# Altium schematic symbol library moma_altium_library.SchLib: 29 symbols
Pins are listed as number, name and electrical type; pins without a type are passive.

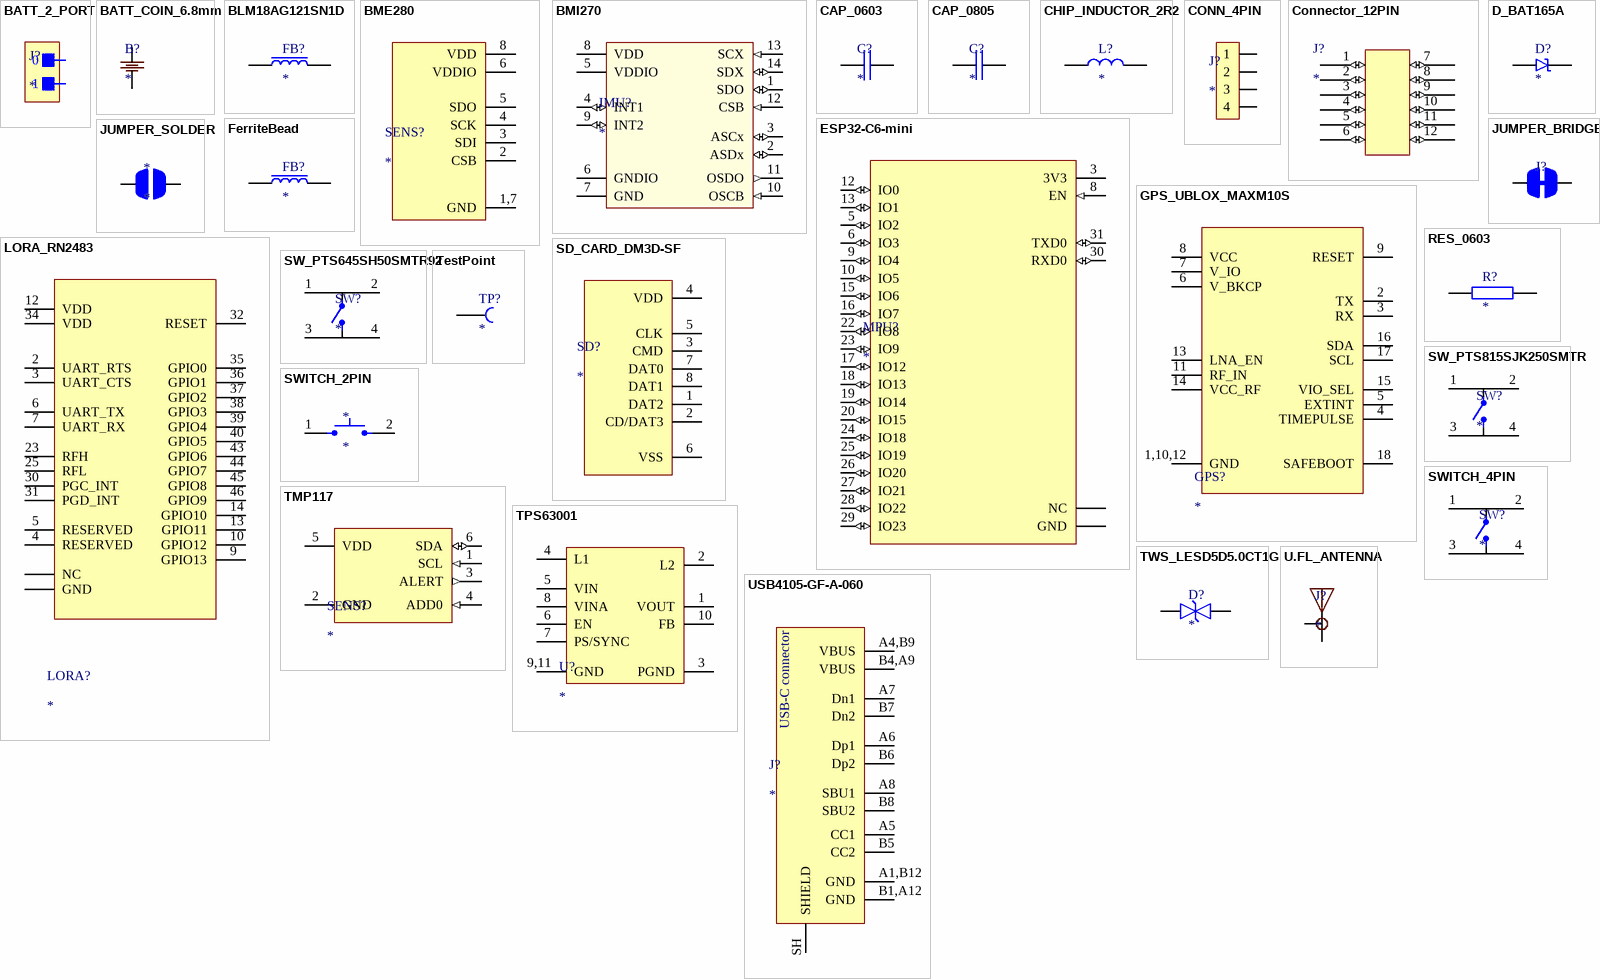
[diagram p0: symbols BATT_2_PORT to USB4105-GF-A-060]

## BATT_2_PORT
designator J?
pins: 0, 1

## BATT_COIN_6.8mm
designator B?
footprint BAT_BK-879
pins: 1, 2

## BLM18AG121SN1D
designator FB?
Murata BLM18AG121SN1D
footprint FB_0603 (Chip Inductor, 2-Leads, Body 1.60x0.80mm, IPC Medium Density)
pins: 1, 2

## BME280
designator SENS?
footprint LGA25x25x1MM (LGA, 9-Leads, Body 2.50x2.50mmx1.00mm, Pitch 0.65mm)
pins: 1,7 GND, 2 CSB, 3 SDI, 4 SCK, 5 SDO, 6 VDDIO, 8 VDD

## BMI270
designator IMU?
footprint LGA14_3x2.5x0.8mm (LGA, 14-Leads, Body 3.00x2.50mm, Pitch 0.50mm, Thermal Pad 0.10x0.10mm, IPC Medium Density)
pins: 1 SDO (io), 2 ASDx (io), 3 ASCx (io), 4 INT1 (io), 5 VDDIO (power), 6 GNDIO (power), 7 GND (power), 8 VDD (power), 9 INT2 (io), 10 OSCB (in), 11 OSDO (out), 12 CSB (in), 13 SCX (in), 14 SDX (io)

## CAP_0603
designator C?
footprint CAP_0603
pins: 1, 2

## CAP_0805
designator C?
footprint CAP_0805 (Capacitor SMD 0805)
pins: 1, 2

## CHIP_INDUCTOR_2R2
designator L?
footprint INDP3030X12N (Precision Wire Wound Inductor, 2-Leads, Body 3.00x3.00mm, IPC Medium Density)
pins: 1, 2

## CONN_4PIN
designator J?
footprint 4PIN_CONNECTOR_1X4
pins: 1, 2, 3, 4

## Connector_12PIN
designator J?
footprint 12PIN_connector
pins: 1 (io), 2 (io), 3 (io), 4 (io), 5 (io), 6 (io), 7 (io), 8 (io), 9 (io), 10 (io), 11 (io), 12 (io)

## D_BAT165A
designator D?
ComponentLink1Description: Datasheet:; ComponentLink1URL: https://assets.nexperia.com/documents/data-sheet/BAT165A.pdf
footprint SOD-323 (Package SOD323)
pins: 1, 2

## ESP32-C6-mini
designator MPU?
footprint ESP32C6_MINI (Footprint for ESP32-C6-mini module); pin to pad 1>1+2+11+14+36+37+38+39+40+41+42+43+44+45+46+47+48+49+50+51+52+53 7>4+7+21+32+33+34+35
pins: 1 GND (power), 3 3V3 (power), 5 IO2 (io), 6 IO3 (io), 7 NC, 8 EN (in), 9 IO4 (io), 10 IO5 (io), 12 IO0 (io), 13 IO1 (io), 15 IO6 (io), 16 IO7 (io), 17 IO12 (io), 18 IO13 (io), 19 IO14 (io), 20 IO15 (io), 22 IO8 (io), 23 IO9 (io), 24 IO18 (io), 25 IO19 (io), 26 IO20 (io), 27 IO21 (io), 28 IO22 (io), 29 IO23 (io), 30 RXD0 (io), 31 TXD0 (io)

## FerriteBead
designator FB?
footprint FB_0603 (Chip Inductor, 2-Leads, Body 1.60x0.80mm, IPC Medium Density)
pins: 1, 2

## GPS_UBLOX_MAXM10S
designator GPS?
footprint SON127P600-8N (SON 18 LEAD FOR UBLOX MAX-M10s)
pins: 1,10,12 GND, 2 TX, 3 RX, 4 TIMEPULSE, 5 EXTINT, 6 V_BKCP, 7 V_IO, 8 VCC, 9 RESET, 11 RF_IN, 13 LNA_EN, 14 VCC_RF, 15 VIO_SEL, 16 SDA, 17 SCL, 18 SAFEBOOT

## JUMPER_BRIDGED
designator J?  (value not drawn)
pins: 1, 2

## JUMPER_SOLDER
designator *
footprint JUMPER_SOLDER_
pins: 1, 2

## LORA_RN2483
designator LORA?
footprint SON127P600-8N - duplicate (SON 47-lead package for LoRa chip RN2483)
pins: 1,8,11,20,21,22,26,27,28,33,41,47 GND, 2 UART_RTS, 3 UART_CTS, 4 RESERVED, 5 RESERVED, 6 UART_TX, 7 UART_RX, 9 GPIO13, 10 GPIO12, 12 VDD, 13 GPIO11, 14 GPIO10, 15,16,17,18,19,29,42 NC, 23 RFH, 25 RFL, 30 PGC_INT, 31 PGD_INT, 32 RESET, 34 VDD, 35 GPIO0, 36 GPIO1, 37 GPIO2, 38 GPIO3, 39 GPIO4, 40 GPIO5, 43 GPIO6, 44 GPIO7, 45 GPIO8, 46 GPIO9

## RES_0603
designator R?
footprint RES_0603 (Chip Resistor, 2-Leads, Body 1.60x0.80mm, IPC Medium Density)
pins: 1, 2

## SD_CARD_DM3D-SF
designator SD?
ComponentLink1Description: Mouser page:; ComponentLink1URL: https://eu.mouser.com/ProductDetail/Hirose-Connector/DM3D-SF?qs=nSryOFbzj8L3f0GFYlvXkw%3D%3D; ComponentLink2Description: Datasheet:; ComponentLink2URL: https://eu.mouser.com/datasheet/2/185/hiro_s_a0003496442_1-2269812.pdf
footprint SD_DM3D-SF
pins: 1 DAT2, 2 CD/DAT3, 3 CMD, 4 VDD, 5 CLK, 6 VSS, 7 DAT0, 8 DAT1

## SW_PTS645SH50SMTR92
designator SW?
footprint PTS645SH50SMTR92 (This is layout for tactile switch PTS645 SMT G Type)
pins: 1, 2, 3, 4

## SW_PTS815SJK250SMTR
designator SW?
ComponentLink1Description: Mouser page:; ComponentLink1URL: https://eu.mouser.com/ProductDetail/CK/PTS815SJK250SMTR-LFS?qs=Imq1NPwxi766c6FNPaxxTg%3D%3D; ComponentLink2Description: Datasheet:; ComponentLink2URL: https://www.ckswitches.com/media/2728/pts815.pdf
footprint PTS815SJK250SMTR (This is layout for tactile switch PTS815 SMT G Type)
pins: 1, 2, 3, 4

## SWITCH_2PIN
designator *
pins: 1 22, 2 23

## SWITCH_4PIN
designator SW?
pins: 1, 2, 3, 4

## TestPoint
designator TP?  (no BOM)
footprint TEST_POINT_ROUND
footprint TEST_POINT_RECTANGLE
footprint TEST_POINT_ROUND_REC
pins: 1

## TMP117
designator SENS?
footprint WSON_2x2x08MM (SON, 6-Leads, Body 2.00x2.00mm, Pitch 0.65mm, Thermal Pad 1.60x0.89mm, IPC Medium Density)
pins: 1 SCL (in), 2 GND (power), 3 ALERT (out), 4 ADD0 (in), 5 VDD (power), 6 SDA (io)

## TPS63001
designator U?
footprint VREG_V62/16624-01YE
pins: 1 VOUT, 2 L2, 3 PGND, 4 L1, 5 VIN, 6 EN, 7 PS/SYNC, 8 VINA, 9,11 GND, 10 FB

## TWS_LESD5D5.0CT1G
designator D?
ComponentLink1Description: Datasheet:; ComponentLink1URL: https://jlcpcb.com/api/file/downloadByFileSystemAccessId/8588884026236657664
footprint SOD-523 (SODFL, 2-Leads, Body 0.80x1.60mm, IPC Medium Density)
pins: 1, 2

## U.FL_ANTENNA
designator J?
footprint HRS_U.FL-R-SMT-1(10)
pins: 1,3 1, 2

## USB4105-GF-A-060
designator J?
This is 16pin USB-C connector
footprint GCT_USB4105-GF-A-060; pin to pad A1,B12>A1_B12 A4,B9>A4_B9 B1,A12>B1_A12 B4,A9>B4_A9
pins: A1,B12 GND (power), A4,B9 VBUS (power), A5 CC1, A6 Dp1, A7 Dn1, A8 SBU1, B1,A12 GND (power), B4,A9 VBUS (power), B5 CC2, B6 Dp2, B7 Dn2, B8 SBU2, SH SHIELD
text: USB-C connector